# EAGLE library part XC7S25-1CSGA225I (library XC7S25CSGA225-1C)
XC7S25-1CSGA225I Source: Datasheet <https://www.xilinx.com/support/documentation/data_sheets/ds180_7Series_Overview.pdf>
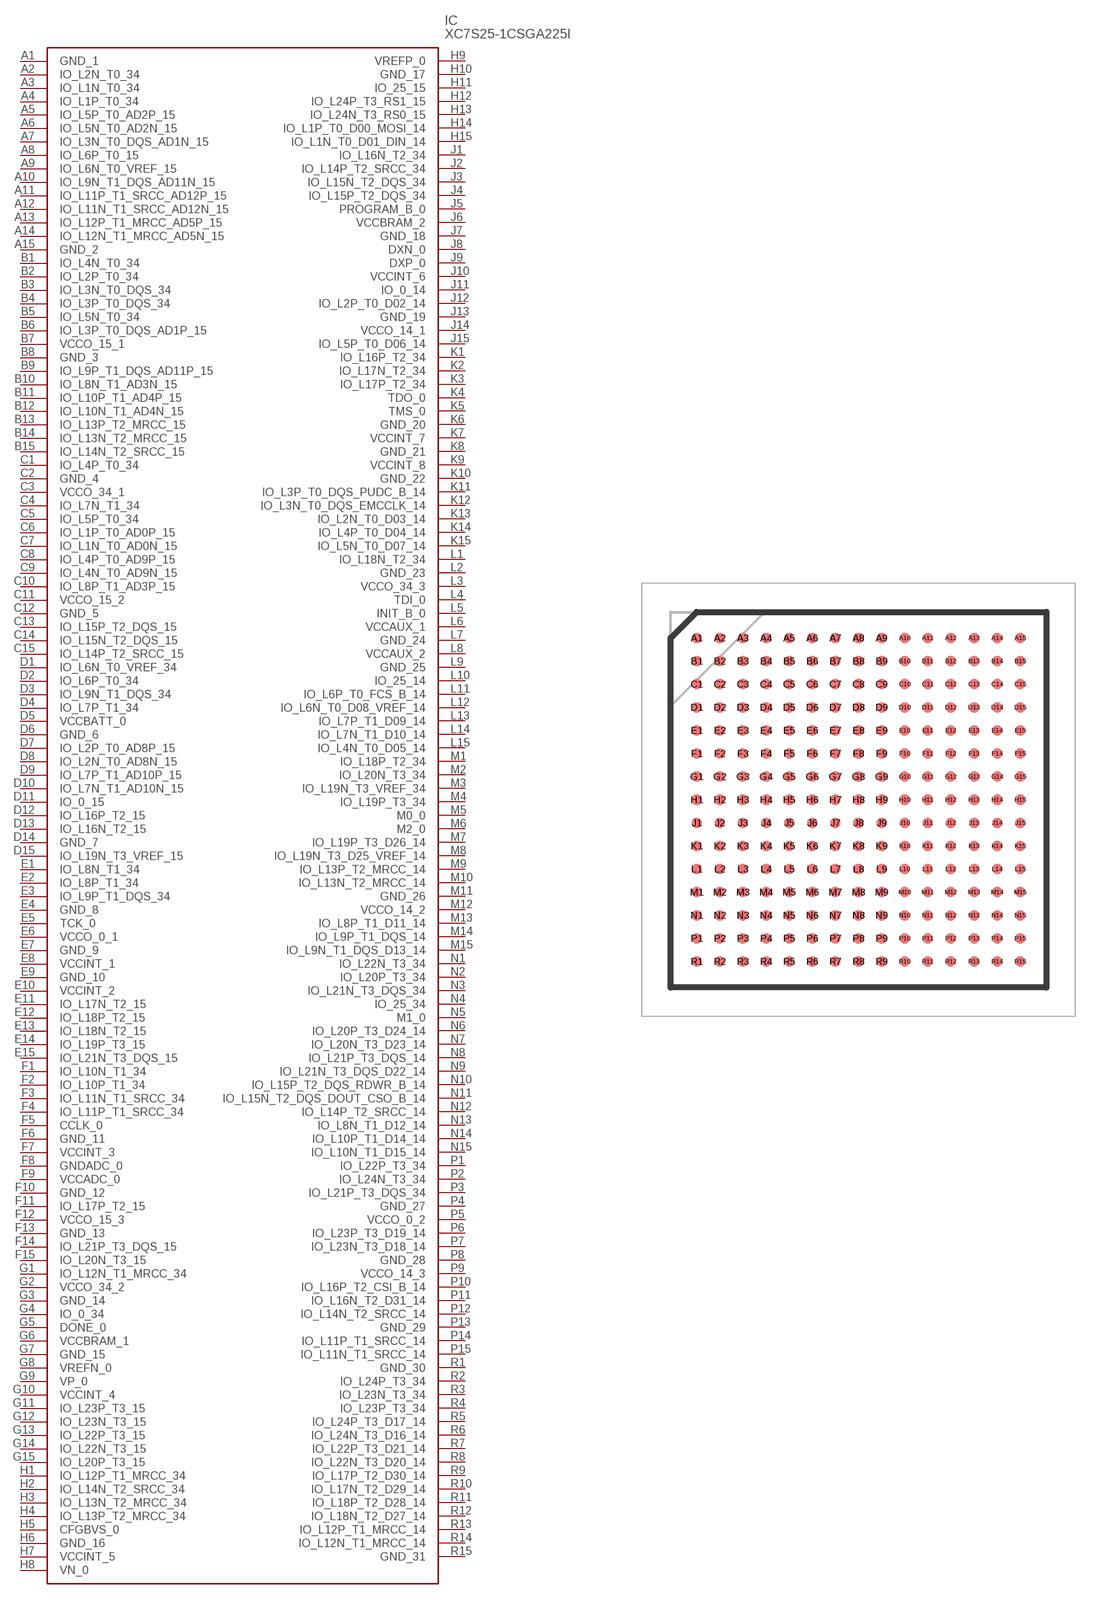
[diagram p0: symbol with the pads of BGA225C80P15X15_1300X1300X140; footprint BGA225C80P15X15_1300X1300X140]

Designator prefix IC

## XC7S25-1CSGA225I (Description: XC7S25-1CSGA225I; Height: 1.4mm; Manufacturer_Name: XILINX; Manufacturer_Part_Number: XC7S25-1CSGA225I)  [BGA225C80P15X15_1300X1300X140]
A1  GND_1
A2  IO_L2N_T0_34
A3  IO_L1N_T0_34
A4  IO_L1P_T0_34
A5  IO_L5P_T0_AD2P_15
A6  IO_L5N_T0_AD2N_15
A7  IO_L3N_T0_DQS_AD1N_15
A8  IO_L6P_T0_15
A9  IO_L6N_T0_VREF_15
A10  IO_L9N_T1_DQS_AD11N_15
A11  IO_L11P_T1_SRCC_AD12P_15
A12  IO_L11N_T1_SRCC_AD12N_15
A13  IO_L12P_T1_MRCC_AD5P_15
A14  IO_L12N_T1_MRCC_AD5N_15
A15  GND_2
B1  IO_L4N_T0_34
B2  IO_L2P_T0_34
B3  IO_L3N_T0_DQS_34
B4  IO_L3P_T0_DQS_34
B5  IO_L5N_T0_34
B6  IO_L3P_T0_DQS_AD1P_15
B7  VCCO_15_1
B8  GND_3
B9  IO_L9P_T1_DQS_AD11P_15
B10  IO_L8N_T1_AD3N_15
B11  IO_L10P_T1_AD4P_15
B12  IO_L10N_T1_AD4N_15
B13  IO_L13P_T2_MRCC_15
B14  IO_L13N_T2_MRCC_15
B15  IO_L14N_T2_SRCC_15
C1  IO_L4P_T0_34
C2  GND_4
C3  VCCO_34_1
C4  IO_L7N_T1_34
C5  IO_L5P_T0_34
C6  IO_L1P_T0_AD0P_15
C7  IO_L1N_T0_AD0N_15
C8  IO_L4P_T0_AD9P_15
C9  IO_L4N_T0_AD9N_15
C10  IO_L8P_T1_AD3P_15
C11  VCCO_15_2
C12  GND_5
C13  IO_L15P_T2_DQS_15
C14  IO_L15N_T2_DQS_15
C15  IO_L14P_T2_SRCC_15
D1  IO_L6N_T0_VREF_34
D2  IO_L6P_T0_34
D3  IO_L9N_T1_DQS_34
D4  IO_L7P_T1_34
D5  VCCBATT_0
D6  GND_6
D7  IO_L2P_T0_AD8P_15
D8  IO_L2N_T0_AD8N_15
D9  IO_L7P_T1_AD10P_15
D10  IO_L7N_T1_AD10N_15
D11  IO_0_15
D12  IO_L16P_T2_15
D13  IO_L16N_T2_15
D14  GND_7
D15  IO_L19N_T3_VREF_15
E1  IO_L8N_T1_34
E2  IO_L8P_T1_34
E3  IO_L9P_T1_DQS_34
E4  GND_8
E5  TCK_0
E6  VCCO_0_1
E7  GND_9
E8  VCCINT_1
E9  GND_10
E10  VCCINT_2
E11  IO_L17N_T2_15
E12  IO_L18P_T2_15
E13  IO_L18N_T2_15
E14  IO_L19P_T3_15
E15  IO_L21N_T3_DQS_15
F1  IO_L10N_T1_34
F2  IO_L10P_T1_34
F3  IO_L11N_T1_SRCC_34
F4  IO_L11P_T1_SRCC_34
F5  CCLK_0
F6  GND_11
F7  VCCINT_3
F8  GNDADC_0
F9  VCCADC_0
F10  GND_12
F11  IO_L17P_T2_15
F12  VCCO_15_3
F13  GND_13
F14  IO_L21P_T3_DQS_15
F15  IO_L20N_T3_15
G1  IO_L12N_T1_MRCC_34
G2  VCCO_34_2
G3  GND_14
G4  IO_0_34
G5  DONE_0
G6  VCCBRAM_1
G7  GND_15
G8  VREFN_0
G9  VP_0
G10  VCCINT_4
G11  IO_L23P_T3_15
G12  IO_L23N_T3_15
G13  IO_L22P_T3_15
G14  IO_L22N_T3_15
G15  IO_L20P_T3_15
H1  IO_L12P_T1_MRCC_34
H2  IO_L14N_T2_SRCC_34
H3  IO_L13N_T2_MRCC_34
H4  IO_L13P_T2_MRCC_34
H5  CFGBVS_0
H6  GND_16
H7  VCCINT_5
H8  VN_0
H9  VREFP_0
H10  GND_17
H11  IO_25_15
H12  IO_L24P_T3_RS1_15
H13  IO_L24N_T3_RS0_15
H14  IO_L1P_T0_D00_MOSI_14
H15  IO_L1N_T0_D01_DIN_14
J1  IO_L16N_T2_34
J2  IO_L14P_T2_SRCC_34
J3  IO_L15N_T2_DQS_34
J4  IO_L15P_T2_DQS_34
J5  PROGRAM_B_0
J6  VCCBRAM_2
J7  GND_18
J8  DXN_0
J9  DXP_0
J10  VCCINT_6
J11  IO_0_14
J12  IO_L2P_T0_D02_14
J13  GND_19
J14  VCCO_14_1
J15  IO_L5P_T0_D06_14
K1  IO_L16P_T2_34
K2  IO_L17N_T2_34
K3  IO_L17P_T2_34
K4  TDO_0
K5  TMS_0
K6  GND_20
K7  VCCINT_7
K8  GND_21
K9  VCCINT_8
K10  GND_22
K11  IO_L3P_T0_DQS_PUDC_B_14
K12  IO_L3N_T0_DQS_EMCCLK_14
K13  IO_L2N_T0_D03_14
K14  IO_L4P_T0_D04_14
K15  IO_L5N_T0_D07_14
L1  IO_L18N_T2_34
L2  GND_23
L3  VCCO_34_3
L4  TDI_0
L5  INIT_B_0
L6  VCCAUX_1
L7  GND_24
L8  VCCAUX_2
L9  GND_25
L10  IO_25_14
L11  IO_L6P_T0_FCS_B_14
L12  IO_L6N_T0_D08_VREF_14
L13  IO_L7P_T1_D09_14
L14  IO_L7N_T1_D10_14
L15  IO_L4N_T0_D05_14
M1  IO_L18P_T2_34
M2  IO_L20N_T3_34
M3  IO_L19N_T3_VREF_34
M4  IO_L19P_T3_34
M5  M0_0
M6  M2_0
M7  IO_L19P_T3_D26_14
M8  IO_L19N_T3_D25_VREF_14
M9  IO_L13P_T2_MRCC_14
M10  IO_L13N_T2_MRCC_14
M11  GND_26
M12  VCCO_14_2
M13  IO_L8P_T1_D11_14
M14  IO_L9P_T1_DQS_14
M15  IO_L9N_T1_DQS_D13_14
N1  IO_L22N_T3_34
N2  IO_L20P_T3_34
N3  IO_L21N_T3_DQS_34
N4  IO_25_34
N5  M1_0
N6  IO_L20P_T3_D24_14
N7  IO_L20N_T3_D23_14
N8  IO_L21P_T3_DQS_14
N9  IO_L21N_T3_DQS_D22_14
N10  IO_L15P_T2_DQS_RDWR_B_14
N11  IO_L15N_T2_DQS_DOUT_CSO_B_14
N12  IO_L14P_T2_SRCC_14
N13  IO_L8N_T1_D12_14
N14  IO_L10P_T1_D14_14
N15  IO_L10N_T1_D15_14
P1  IO_L22P_T3_34
P2  IO_L24N_T3_34
P3  IO_L21P_T3_DQS_34
P4  GND_27
P5  VCCO_0_2
P6  IO_L23P_T3_D19_14
P7  IO_L23N_T3_D18_14
P8  GND_28
P9  VCCO_14_3
P10  IO_L16P_T2_CSI_B_14
P11  IO_L16N_T2_D31_14
P12  IO_L14N_T2_SRCC_14
P13  GND_29
P14  IO_L11P_T1_SRCC_14
P15  IO_L11N_T1_SRCC_14
R1  GND_30
R2  IO_L24P_T3_34
R3  IO_L23N_T3_34
R4  IO_L23P_T3_34
R5  IO_L24P_T3_D17_14
R6  IO_L24N_T3_D16_14
R7  IO_L22P_T3_D21_14
R8  IO_L22N_T3_D20_14
R9  IO_L17P_T2_D30_14
R10  IO_L17N_T2_D29_14
R11  IO_L18P_T2_D28_14
R12  IO_L18N_T2_D27_14
R13  IO_L12P_T1_MRCC_14
R14  IO_L12N_T1_MRCC_14
R15  GND_31

## Footprint BGA225C80P15X15_1300X1300X140 (pad centres in mm)
CSGA225
smd 0.37 x 0.37: A1 -5.6,5.6; A2 -4.8,5.6; A3 -4,5.6; A4 -3.2,5.6; A5 -2.4,5.6; A6 -1.6,5.6; A7 -0.8,5.6; A8 0,5.6; A9 0.8,5.6; A10 1.6,5.6; A11 2.4,5.6; A12 3.2,5.6; A13 4,5.6; A14 4.8,5.6; A15 5.6,5.6; B1 -5.6,4.8; B2 -4.8,4.8; B3 -4,4.8; B4 -3.2,4.8; B5 -2.4,4.8; B6 -1.6,4.8; B7 -0.8,4.8; B8 0,4.8; B9 0.8,4.8; B10 1.6,4.8; B11 2.4,4.8; B12 3.2,4.8; B13 4,4.8; B14 4.8,4.8; B15 5.6,4.8; C1 -5.6,4; C2 -4.8,4; C3 -4,4; C4 -3.2,4; C5 -2.4,4; C6 -1.6,4; C7 -0.8,4; C8 0,4; C9 0.8,4; C10 1.6,4; C11 2.4,4; C12 3.2,4; C13 4,4; C14 4.8,4; C15 5.6,4; D1 -5.6,3.2; D2 -4.8,3.2; D3 -4,3.2; D4 -3.2,3.2; D5 -2.4,3.2; D6 -1.6,3.2; D7 -0.8,3.2; D8 0,3.2; D9 0.8,3.2; D10 1.6,3.2; D11 2.4,3.2; D12 3.2,3.2; D13 4,3.2; D14 4.8,3.2; D15 5.6,3.2; E1 -5.6,2.4; E2 -4.8,2.4; E3 -4,2.4; E4 -3.2,2.4; E5 -2.4,2.4; E6 -1.6,2.4; E7 -0.8,2.4; E8 0,2.4; E9 0.8,2.4; E10 1.6,2.4; E11 2.4,2.4; E12 3.2,2.4; E13 4,2.4; E14 4.8,2.4; E15 5.6,2.4; F1 -5.6,1.6; F2 -4.8,1.6; F3 -4,1.6; F4 -3.2,1.6; F5 -2.4,1.6; F6 -1.6,1.6; F7 -0.8,1.6; F8 0,1.6; F9 0.8,1.6; F10 1.6,1.6; F11 2.4,1.6; F12 3.2,1.6; F13 4,1.6; F14 4.8,1.6; F15 5.6,1.6; G1 -5.6,0.8; G2 -4.8,0.8; G3 -4,0.8; G4 -3.2,0.8; G5 -2.4,0.8; G6 -1.6,0.8; G7 -0.8,0.8; G8 0,0.8; G9 0.8,0.8; G10 1.6,0.8; G11 2.4,0.8; G12 3.2,0.8; G13 4,0.8; G14 4.8,0.8; G15 5.6,0.8; H1 -5.6,0; H2 -4.8,0; H3 -4,0; H4 -3.2,0; H5 -2.4,0; H6 -1.6,0; H7 -0.8,0; H8 0,0; H9 0.8,0; H10 1.6,0; H11 2.4,0; H12 3.2,0; H13 4,0; H14 4.8,0; H15 5.6,0; J1 -5.6,-0.8; J2 -4.8,-0.8; J3 -4,-0.8; J4 -3.2,-0.8; J5 -2.4,-0.8; J6 -1.6,-0.8; J7 -0.8,-0.8; J8 0,-0.8; J9 0.8,-0.8; J10 1.6,-0.8; J11 2.4,-0.8; J12 3.2,-0.8; J13 4,-0.8; J14 4.8,-0.8; J15 5.6,-0.8; K1 -5.6,-1.6; K2 -4.8,-1.6; K3 -4,-1.6; K4 -3.2,-1.6; K5 -2.4,-1.6; K6 -1.6,-1.6; K7 -0.8,-1.6; K8 0,-1.6; K9 0.8,-1.6; K10 1.6,-1.6; K11 2.4,-1.6; K12 3.2,-1.6; K13 4,-1.6; K14 4.8,-1.6; K15 5.6,-1.6; L1 -5.6,-2.4; L2 -4.8,-2.4; L3 -4,-2.4; L4 -3.2,-2.4; L5 -2.4,-2.4; L6 -1.6,-2.4; L7 -0.8,-2.4; L8 0,-2.4; L9 0.8,-2.4; L10 1.6,-2.4; L11 2.4,-2.4; L12 3.2,-2.4; L13 4,-2.4; L14 4.8,-2.4; L15 5.6,-2.4; M1 -5.6,-3.2; M2 -4.8,-3.2; M3 -4,-3.2; M4 -3.2,-3.2; M5 -2.4,-3.2; M6 -1.6,-3.2; M7 -0.8,-3.2; M8 0,-3.2; M9 0.8,-3.2; M10 1.6,-3.2; M11 2.4,-3.2; M12 3.2,-3.2; M13 4,-3.2; M14 4.8,-3.2; M15 5.6,-3.2; N1 -5.6,-4; N2 -4.8,-4; N3 -4,-4; N4 -3.2,-4; N5 -2.4,-4; N6 -1.6,-4; N7 -0.8,-4; N8 0,-4; N9 0.8,-4; N10 1.6,-4; N11 2.4,-4; N12 3.2,-4; N13 4,-4; N14 4.8,-4; N15 5.6,-4; P1 -5.6,-4.8; P2 -4.8,-4.8; P3 -4,-4.8; P4 -3.2,-4.8; P5 -2.4,-4.8; P6 -1.6,-4.8; P7 -0.8,-4.8; P8 0,-4.8; P9 0.8,-4.8; P10 1.6,-4.8; P11 2.4,-4.8; P12 3.2,-4.8; P13 4,-4.8; P14 4.8,-4.8; P15 5.6,-4.8; R1 -5.6,-5.6; R2 -4.8,-5.6; R3 -4,-5.6; R4 -3.2,-5.6; R5 -2.4,-5.6; R6 -1.6,-5.6; R7 -0.8,-5.6; R8 0,-5.6; R9 0.8,-5.6; R10 1.6,-5.6; R11 2.4,-5.6; R12 3.2,-5.6; R13 4,-5.6; R14 4.8,-5.6; R15 5.6,-5.6